# EAGLE library part TDA7050 (library Audio-Power-amlifier V.2.0)
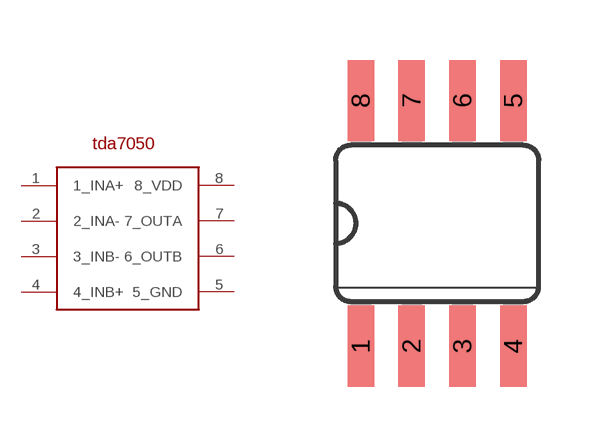
[diagram p18: symbol with the pads of SO8; footprint SO8]

Designator prefix -

## TDA7050SO8  [SO8]
1  1_INA+
2  2_INA-
3  3_INB-
4  4_INB+
5  5_GND
6  6_OUTB
7  7_OUTA
8  8_VDD

## Footprint SO8 (pad centres in mm)
smd 0.66 x 2.032: 1 -1.905,-3.073; 2 -0.635,-3.073; 3 0.635,-3.073; 4 1.905,-3.073; 5 1.905,3.073; 6 0.635,3.073; 7 -0.635,3.073; 8 -1.905,3.073